# Altium schematic symbol library LTC4080EDD#PBF.Schlib: 1 symbol
Pins are listed as number, name and electrical type; pins without a type are passive.

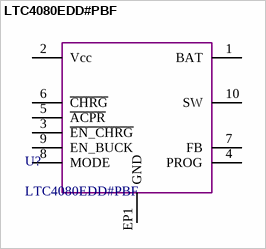
[diagram p0: symbol LTC4080EDD#PBF]

## LTC4080EDD#PBF
designator U?
pins: 1 BAT, 2 Vcc, 3 ~{EN_CHRG}, 4 PROG, 5 ~{ACPR}, 6 ~{CHRG}, 7 FB, 8 MODE, 9 EN_BUCK, 10 SW, EP1 GND